# Altium footprint library Regulators.PcbLib: 3 footprints
Each footprint in its own frame and in the unit in brackets; x right, y up, seen from the top. Pads: shape width x height; smd on the part's side, far side on the other; paste and mask are expansions set on the pad; w line width, h text height; cw(c..) or ccw(c..) is an arc to the next point about the centre after c.
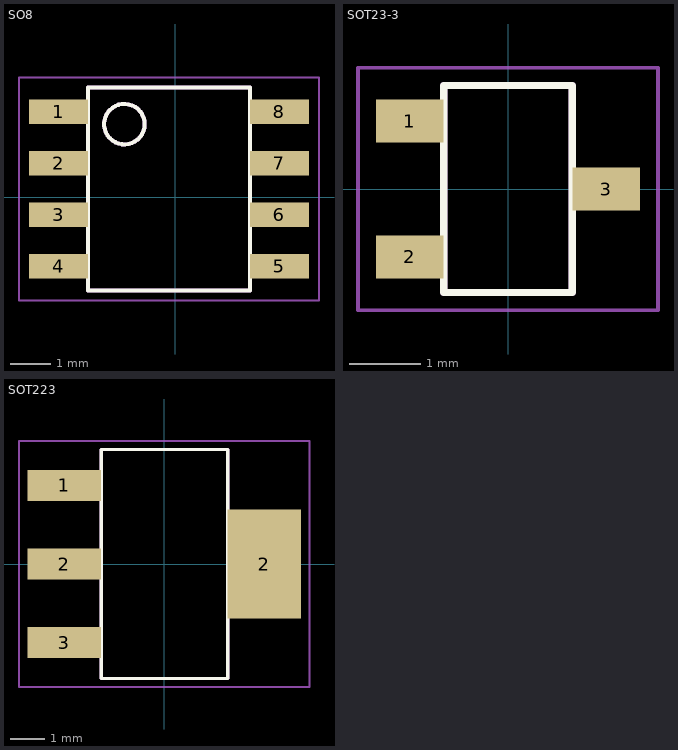
[diagram p0: the footprints below, top view; thin cyan lines are the x and y axes]

## SO8 [mm]
pads (8):
  rect 1.45x0.6 smd: 1(-2.875,2.105) 2(-2.875,0.835) 3(-2.875,-0.435) 4(-2.875,-1.705) 5(2.575,-1.705) 6(2.575,-0.435) 7(2.575,0.835) 8(2.575,2.105)
Top Overlay:
  circle w0.1: c-1.25,1.8 r0.5
  lines w0.1: -2.15,-2.3 1.85,-2.3 1.85,2.7 -2.15,2.7 -2.15,-2.3
Mechanical 2:
  circle w0.1: c-1.25,1.8 r0.5
  lines w0.05: -3.85,-2.55 3.55,-2.55 3.55,2.95 -3.85,2.95 -3.85,-2.55
  lines w0.1: -2.15,-2.3 -2.15,2.7 1.85,2.7 1.85,-2.3 -2.15,-2.3
3D body "SOIC8.STEP": height 1.75, standoff 0, extent -3.175,-2.25 2.825,2.65

## SOT23-3 [mm] "SOT23, 3-Leads, Body 2.80x2.80mm, Pitch 0.95mm, IPC Medium Density"
height 1.3
pads (3):
  rect 0.95x0.6 smd: 1(-1.375,0.95) 2(-1.375,-0.95) 3(1.375,0)
Top Overlay:
  lines w0.1: -0.9,-1.45 -0.9,1.45 0.9,1.45 0.9,-1.45 -0.9,-1.45
Mechanical 2:
  lines w0.05: -2.1,-1.7 -2.1,1.7 2.1,1.7 2.1,-1.7 -2.1,-1.7
  lines w0.1: -0.9,-1.45 0.9,-1.45 0.9,1.45 -0.9,1.45 -0.9,-1.45
3D body "SOT23-3.STEP": height 1.3, standoff 0, extent -1.4,-1.45 1.4,1.45

## SOT223 [mm] "SOT223, 4-Leads, Body 6.50x7.00mm (avg), Pitch 2.30mm, IPC Medium Density"
height 1.8
pads (4):
  rect 2.15x0.9 smd: 1(-2.925,2.3) 2(-2.925,0) 3(-2.925,-2.3)
  rect 2.15x3.2 smd: 2(2.925,0)
Top Overlay:
  lines w0.1: -1.85,-3.35 -1.85,3.35 1.85,3.35 1.85,-3.35 -1.85,-3.35
Mechanical 2:
  lines w0.05: -4.25,-3.6 4.25,-3.6 4.25,3.6 -4.25,3.6 -4.25,-3.6
  lines w0.1: -1.85,-3.35 1.85,-3.35 1.85,3.35 -1.85,3.35 -1.85,-3.35
3D body "SOT223.STEP": height 1.59, standoff -0.06, extent -3.5,-3.25 3.5,3.25